# EAGLE library part ATMEGA328P-AU (library ATMEGA328P-AU)
MICROCHIP - ATMEGA328P-AU. - MICROCONTROLLER MCU, 8 BIT, ATMEGA, 20MHZ, TQFP-32 Source: Datasheet <https://componentsearchengine.com/Datasheets/2/ATMEGA328P-AU.pdf>
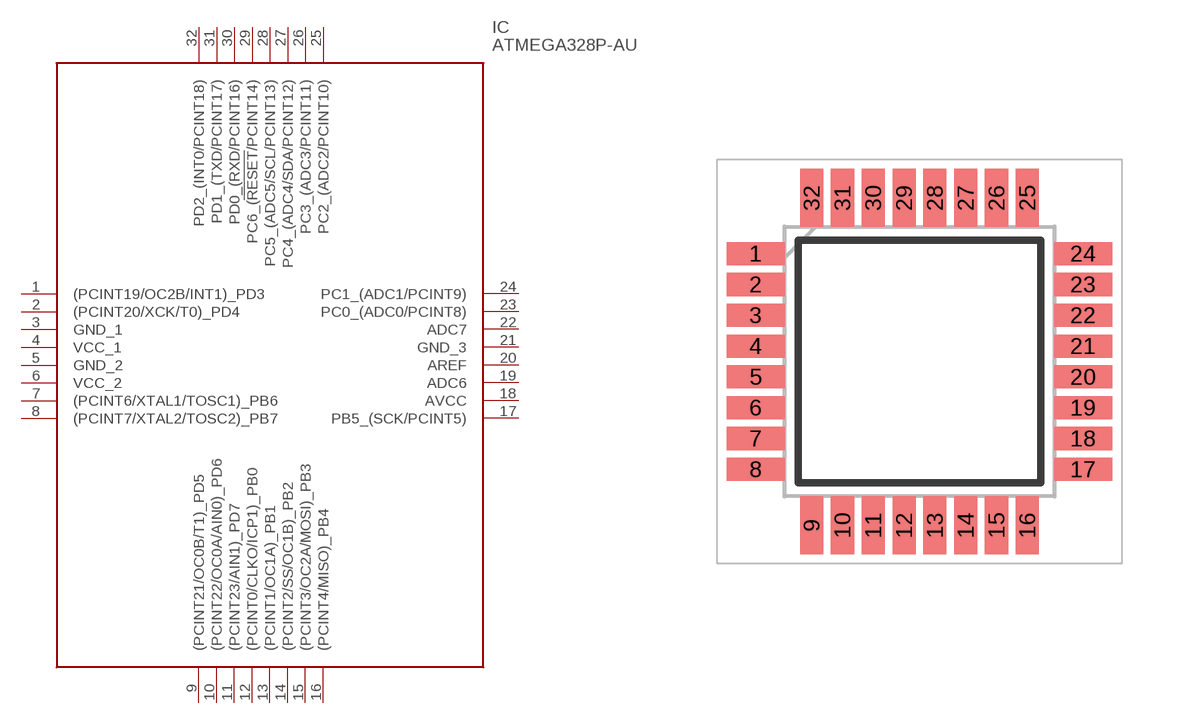
[diagram p0: symbol with the pads of QFP80P900X900X120-32N; footprint QFP80P900X900X120-32N]

Designator prefix IC

## ATMEGA328P-AU (Arrow_Part_Number: ATMEGA328P-AU; Arrow_Price-Stock: https://www.arrow.com/en/products/atmega328p-au/microchip-technology?region=nac; Description: MICROCHIP - ATMEGA328P-AU. - MICROCONTROLLER MCU, 8 BIT, ATMEGA, 20MHZ, TQFP-32; Height: 1.2mm; Manufacturer_Name: Microchip; Manufacturer_Part_Number: ATMEGA328P-AU; Mouser_Part_Number: 556-ATMEGA328P-AU; Mouser_Price-Stock: https://www.mouser.co.uk/ProductDetail/Microchip-Technology-Atmel/ATMEGA328P-AU?qs=K8BHR703ZXiCmmgp6%2FGNmQ%3D%3D)  [QFP80P900X900X120-32N]
1  (PCINT19/OC2B/INT1)_PD3
2  (PCINT20/XCK/T0)_PD4
3  GND_1
4  VCC_1
5  GND_2
6  VCC_2
7  (PCINT6/XTAL1/TOSC1)_PB6
8  (PCINT7/XTAL2/TOSC2)_PB7
9  (PCINT21/OC0B/T1)_PD5
10  (PCINT22/OC0A/AIN0)_PD6
11  (PCINT23/AIN1)_PD7
12  (PCINT0/CLKO/ICP1)_PB0
13  (PCINT1/OC1A)_PB1
14  (PCINT2/SS/OC1B)_PB2
15  (PCINT3/OC2A/MOSI)_PB3
16  (PCINT4/MISO)_PB4
17  PB5_(SCK/PCINT5)
18  AVCC
19  ADC6
20  AREF
21  GND_3
22  ADC7
23  PC0_(ADC0/PCINT8)
24  PC1_(ADC1/PCINT9)
25  PC2_(ADC2/PCINT10)
26  PC3_(ADC3/PCINT11)
27  PC4_(ADC4/SDA/PCINT12)
28  PC5_(ADC5/SCL/PCINT13)
29  PC6_(!RESET!/PCINT14)
30  PD0_(RXD/PCINT16)
31  PD1_(TXD/PCINT17)
32  PD2_(INT0/PCINT18)

## Footprint QFP80P900X900X120-32N (pad centres in mm)
32A
smd 1.5 x 0.6: 1 -4.25,2.8; 2 -4.25,2; 3 -4.25,1.2; 4 -4.25,0.4; 5 -4.25,-0.4; 6 -4.25,-1.2; 7 -4.25,-2; 8 -4.25,-2.8; 17 4.25,-2.8; 18 4.25,-2; 19 4.25,-1.2; 20 4.25,-0.4; 21 4.25,0.4; 22 4.25,1.2; 23 4.25,2; 24 4.25,2.8
smd 0.6 x 1.5: 9 -2.8,-4.25; 10 -2,-4.25; 11 -1.2,-4.25; 12 -0.4,-4.25; 13 0.4,-4.25; 14 1.2,-4.25; 15 2,-4.25; 16 2.8,-4.25; 25 2.8,4.25; 26 2,4.25; 27 1.2,4.25; 28 0.4,4.25; 29 -0.4,4.25; 30 -1.2,4.25; 31 -2,4.25; 32 -2.8,4.25